# EAGLE library part TMP006 (library hsk_2012)
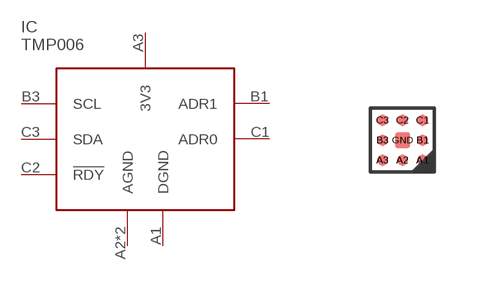
[diagram p45: symbol with the pads of S-XBGA-N8; footprint S-XBGA-N8]

Designator prefix IC

## TMP006_1  [S-XBGA-N8]
A1  DGND
A2  AGND
A3  3V3
B1  ADR1
B3  SCL
C1  ADR0
C2  !RDY
C3  SDA
GND  AGND

## Footprint S-XBGA-N8 (pad centres in mm)
smd 0.28 x 0.28: A1 0.5,-0.5; A2 0,-0.5; A3 -0.5,-0.5; B1 0.5,0; B3 -0.5,0; C1 0.5,0.5; C2 0,0.5; C3 -0.5,0.5
smd 0.381 x 0.381: GND 0,0